# Altium footprint library NIXIE TUBES.PcbLib: 2 footprints
Each footprint in its own frame and in the unit in brackets; x right, y up, seen from the top. Pads: shape width x height; smd on the part's side, far side on the other; paste and mask are expansions set on the pad; w line width, h text height; cw(c..) or ccw(c..) is an arc to the next point about the centre after c.
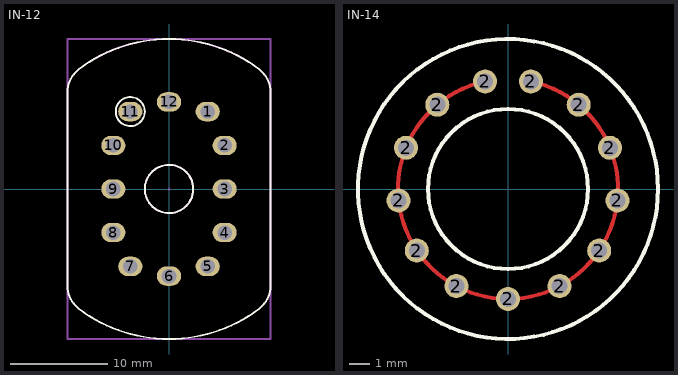
[diagram p0: the footprints below, top view; thin cyan lines are the x and y axes]

## IN-12 [mm]
pads (12):
  oval 2.5x2 hole 1.5 paste-2539.97 mask+0.05: 1(4,8) 2(5.75,4.5) 3(5.75,0) 4(5.75,-4.5) 5(4,-8) 6(0,-9) 7(-4,-8) 8(-5.75,-4.5) 9(-5.75,0) 10(-5.75,4.5) 11(-4,8) 12(0,9)
Top Overlay:
  circle w0.2: c-4,8 r1.5
  circle w0.2: c0,0 r2.5
  lines w0.2: -10.5,-10 ccw(c-7.586,-10) -9.647,-12.06 -9.328,-12.379 ccw(c0,0) 9.328,-12.379 9.647,-12.06 ccw(c7.586,-10) 10.5,-10 10.5,10 ccw(c7.586,10) 9.647,12.06 9.328,12.379 ccw(c0,0) -9.328,12.379 -9.647,12.06 ccw(c-7.586,10) -10.5,10 -10.5,-10
Top Assembly:
  circle w0.2: c0,0 r2.5
  lines w0.2: -7.75,13.423 cw(c0,0) 7.75,13.423
Top Courtyard (Mech15):
  lines w0.2: -10.5,-15.5 10.5,-15.5 10.5,15.5 -10.5,15.5 -10.5,-15.5
Top Component Center:
  lines w0.05: -0.15,0 0.15,0 ; 0,-0.15 0,0.15
Bottom 3D Body:
  lines w0.003: 0.192,0.129 0.193,0.129
3D body "IN-12A.stp": height 29, standoff -6, extent -10.5,-15.5 10.5,15.5

## IN-14 [mm]
pads (13):
  round 1.2 hole 0.8 mask+0.05: 2(-5.47,-0.575) 2(-5.1,2.06) 2(-4.56,-3.076) 2(-3.535,4.213) 2(-2.582,-4.856) 2(-1.144,5.38) 2(0,-5.5) 2(1.144,5.38) 2(2.582,-4.856) 2(3.535,4.213) 2(4.56,-3.076) 2(5.1,2.06) 2(5.47,-0.575)
Top Layer:
  lines w0.2: -1.144,5.38 ccw(c0,0) -3.535,4.213 ccw(c0,0) -5.1,2.06 ccw(c0,0) -5.47,-0.575 ccw(c0,0) -4.56,-3.076 ccw(c0,0) -2.582,-4.856 ccw(c0,0) 0,-5.5 ccw(c0,0) 2.582,-4.856 ccw(c0,0) 4.56,-3.076 ccw(c0,0) 5.47,-0.575 ccw(c0,0) 5.1,2.06 ccw(c0,0) 3.535,4.213 ccw(c0,0) 1.144,5.38
Top Overlay:
  circle w0.2: c0,0 r4
  circle w0.2: c0,0 r7.5